# Altium footprint library expansion_library.PcbLib: 3 footprints
Each footprint in its own frame and in the unit in brackets; x right, y up, seen from the top. Pads: shape width x height; smd on the part's side, far side on the other; paste and mask are expansions set on the pad; w line width, h text height; cw(c..) or ccw(c..) is an arc to the next point about the centre after c.
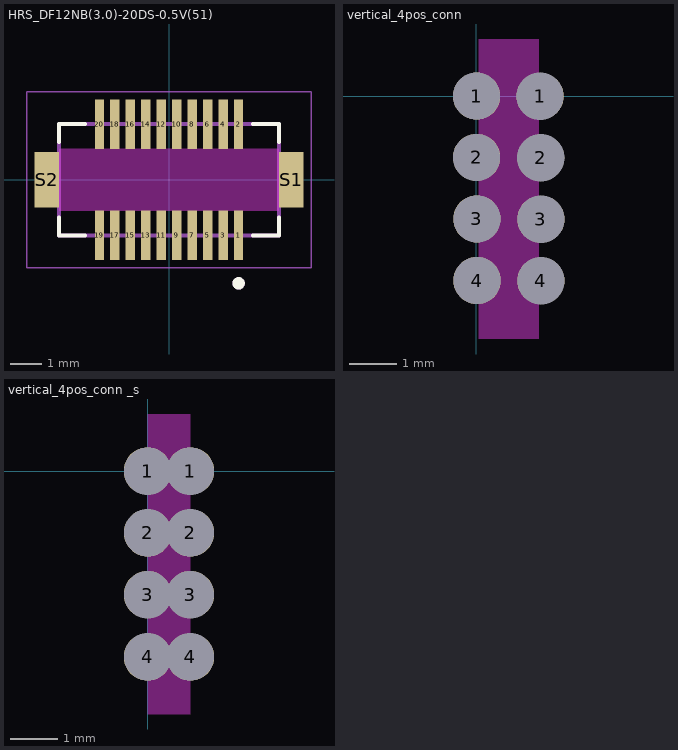
[diagram p0: the footprints below, top view; thin cyan lines are the x and y axes]

## HRS_DF12NB(3.0)-20DS-0.5V(51) [mm]
pads (22):
  rect 0.3x1.6 smd paste-2 mask+0.05: 1(2.25,-1.8) 2(2.25,1.8) 3(1.75,-1.8) 4(1.75,1.8) 5(1.25,-1.8) 6(1.25,1.8) 7(0.75,-1.8) 8(0.75,1.8) 9(0.25,-1.8) 10(0.25,1.8) 11(-0.25,-1.8) 12(-0.25,1.8) 13(-0.75,-1.8) 14(-0.75,1.8) 15(-1.25,-1.8) 16(-1.25,1.8) 17(-1.75,-1.8) 18(-1.75,1.8) 19(-2.25,-1.8) 20(-2.25,1.8)
  rect 0.8x1.8 smd: S1(3.95,0) S2(-3.95,0)
Top Overlay:
  circle w0.2: c2.25,-3.35 r0.1
  lines w0.127: -3.55,-1.22 -3.55,-1.8 -2.72,-1.8 ; -3.55,1.22 -3.55,1.8 -2.72,1.8 ; 2.72,-1.8 3.55,-1.8 3.55,-1.22 ; 2.72,1.8 3.55,1.8 3.55,1.22
Top Paste:
  region: -2.11,-2.6 -2.39,-2.6 -2.39,-1.4 -2.11,-1.4
  region: -2.11,1.4 -2.39,1.4 -2.39,2.6 -2.11,2.6
  region: -1.61,-2.6 -1.89,-2.6 -1.89,-1.4 -1.61,-1.4
  region: -1.61,1.4 -1.89,1.4 -1.89,2.6 -1.61,2.6
  region: -1.11,-2.6 -1.39,-2.6 -1.39,-1.4 -1.11,-1.4
  region: -1.11,1.4 -1.39,1.4 -1.39,2.6 -1.11,2.6
  region: -0.61,-2.6 -0.89,-2.6 -0.89,-1.4 -0.61,-1.4
  region: -0.61,1.4 -0.89,1.4 -0.89,2.6 -0.61,2.6
  region: -0.11,-2.6 -0.39,-2.6 -0.39,-1.4 -0.11,-1.4
  region: -0.11,1.4 -0.39,1.4 -0.39,2.6 -0.11,2.6
  region: 0.39,-2.6 0.11,-2.6 0.11,-1.4 0.39,-1.4
  region: 0.39,1.4 0.11,1.4 0.11,2.6 0.39,2.6
  region: 0.89,-2.6 0.61,-2.6 0.61,-1.4 0.89,-1.4
  region: 0.89,1.4 0.61,1.4 0.61,2.6 0.89,2.6
  region: 1.39,-2.6 1.11,-2.6 1.11,-1.4 1.39,-1.4
  region: 1.39,1.4 1.11,1.4 1.11,2.6 1.39,2.6
  region: 1.89,-2.6 1.61,-2.6 1.61,-1.4 1.89,-1.4
  region: 1.89,1.4 1.61,1.4 1.61,2.6 1.89,2.6
  region: 2.39,-2.6 2.11,-2.6 2.11,-1.4 2.39,-1.4
  region: 2.39,1.4 2.11,1.4 2.11,2.6 2.39,2.6
Keep-Out Layer:
  region: 3.55,-1 -3.55,-1 -3.55,1 3.55,1
Mechanical 13:
  circle w0.2: c2.25,-3.35 r0.1
  lines w0.127: -3.55,-1.8 3.55,-1.8 3.55,1.8 -3.55,1.8 -3.55,-1.8
Mechanical 15:
  lines w0.05: -4.6,-2.85 4.6,-2.85 4.6,2.85 -4.6,2.85 -4.6,-2.85
3D body "DF12NB-3.0--20DS-0.5V-51---3DModel-STEP-1.STEP": height 2.2, standoff 0, extent -4.056,-2.278 4.044,2.322

## vertical_4pos_conn [mm]
pads (8):
  round 1 hole 1: 1(0.01,0) 1(1.356,-0.005) 2(0.01,-1.3) 2(1.371,-1.308) 3(0.018,-2.604) 3(1.375,-2.61) 4(0.02,-3.91) 4(1.373,-3.913)
Keep-Out Layer:
  board cut-out: 0.055,1.21 1.325,1.21 1.325,-5.15 0.055,-5.15
Multi-Layer:
  region: 2.464,0.495 2.563,0.495 2.747,0.419 2.888,0.279 2.964,0.095 2.964,-0.104 2.888,-0.288 2.747,-0.428 2.563,-0.505 2.464,-0.505 1.364,-0.505 1.364,0.495
  region: 2.456,-3.413 1.356,-3.413 1.356,-4.413 2.456,-4.413 2.555,-4.413 2.739,-4.337 2.88,-4.197 2.956,-4.013 2.956,-3.814 2.88,-3.63 2.739,-3.49 2.555,-3.413
  region: 2.479,-0.808 2.578,-0.808 2.762,-0.884 2.902,-1.025 2.979,-1.208 2.979,-1.407 2.902,-1.591 2.762,-1.732 2.578,-1.808 2.479,-1.808 1.379,-1.808 1.379,-0.808
  region: -1.085,-3.104 -1.184,-3.104 -1.368,-3.028 -1.509,-2.887 -1.585,-2.703 -1.585,-2.505 -1.509,-2.321 -1.368,-2.18 -1.184,-2.104 -1.085,-2.104 0.01,-2.104 0.01,-3.104
  region: -1.065,-4.41 0.037,-4.41 0.037,-3.41 -1.065,-3.41 -1.164,-3.41 -1.348,-3.486 -1.489,-3.627 -1.565,-3.811 -1.565,-4.009 -1.489,-4.193 -1.348,-4.334 -1.164,-4.41
  region: -1.13,-0.5 -1.229,-0.5 -1.413,-0.424 -1.554,-0.283 -1.63,-0.099 -1.63,0.099 -1.554,0.283 -1.413,0.424 -1.229,0.5 -1.13,0.5 0.002,0.5 0.002,-0.5
  region: -1.088,-1.8 -1.187,-1.8 -1.371,-1.724 -1.512,-1.583 -1.588,-1.399 -1.588,-1.201 -1.512,-1.017 -1.371,-0.876 -1.187,-0.8 -1.088,-0.8 0.002,-0.8 0.002,-1.8
  region: 2.483,-2.11 2.583,-2.11 2.766,-2.186 2.907,-2.327 2.983,-2.511 2.983,-2.71 2.907,-2.893 2.766,-3.034 2.583,-3.11 2.483,-3.11 1.383,-3.11 1.383,-2.11
  lines w0.1: -1.14,-0.5 0.002,-0.5 0.002,0.5 -1.13,0.5 ccw(c-1.13,0) -1.13,-0.5 ; -1.098,-1.8 0.002,-1.8 0.002,-0.8 ; -1.095,-3.1 0.005,-3.1 ; -1.088,-1.8 cw(c-1.088,-1.3) -1.088,-0.8 0.012,-0.8 ; -1.085,-3.1 cw(c-1.085,-2.6) -1.085,-2.1 0.015,-2.1 ; 0.01,-3.104 0.01,-2.104 ; 0.035,-4.41 -1.065,-4.41 cw(c-1.065,-3.91) -1.065,-3.41 0.035,-3.41 ; 0.037,-4.41 0.037,-3.41 ; 1.356,-4.413 2.456,-4.413 ccw(c2.456,-3.913) 2.456,-3.413 1.356,-3.413 1.356,-4.413 ; 1.364,-0.505 1.364,0.495 2.464,0.495 cw(c2.464,-0.005) 2.464,-0.505 1.364,-0.505 ; 1.379,-1.808 2.479,-1.808 ccw(c2.479,-1.308) 2.479,-0.808 1.379,-0.808 1.379,-1.808 ; 1.383,-3.11 1.383,-2.11 2.483,-2.11 cw(c2.483,-2.61) 2.483,-3.11 1.383,-3.11

## vertical_4pos_conn _s [mm]
pads (8):
  round 1 hole 1: 1(0,0) 1(0.9,0) 2(0.002,-1.3) 2(0.9,-1.3) 3(0,-2.6) 3(0.9,-2.6) 4(0,-3.91) 4(0.9,-3.91)
Keep-Out Layer:
  board cut-out: 0,1.2 0.9,1.2 0.9,-5.11 0,-5.11
Multi-Layer:
  region: 1.5,-3.4 1.599,-3.4 1.783,-3.476 1.924,-3.617 2,-3.801 2,-3.999 1.924,-4.183 1.783,-4.324 1.599,-4.4 1.5,-4.4 0.898,-4.4 0.898,-3.4
  region: 1.5,-0.8 1.599,-0.8 1.783,-0.876 1.924,-1.017 2,-1.201 2,-1.399 1.924,-1.583 1.783,-1.724 1.599,-1.8 1.5,-1.8 0.898,-1.8 0.898,-0.8
  region: 1.5,0.5 1.599,0.5 1.783,0.424 1.924,0.283 2,0.099 2,-0.099 1.924,-0.283 1.783,-0.424 1.599,-0.5 1.5,-0.5 0.848,-0.5 0.848,0.5
  region: -0.6,-3.104 -0.699,-3.104 -0.883,-3.028 -1.024,-2.887 -1.1,-2.703 -1.1,-2.505 -1.024,-2.321 -0.883,-2.18 -0.699,-2.104 -0.6,-2.104 0.01,-2.104 0.01,-3.104
  region: -0.6,-0.5 -0.699,-0.5 -0.883,-0.424 -1.024,-0.283 -1.1,-0.099 -1.1,0.099 -1.024,0.283 -0.883,0.424 -0.699,0.5 -0.6,0.5 0.052,0.5 0.052,-0.5
  region: 1.5,-2.096 1.599,-2.096 1.783,-2.172 1.924,-2.313 2,-2.497 2,-2.695 1.924,-2.879 1.783,-3.02 1.599,-3.096 1.5,-3.096 0.89,-3.096 0.89,-2.096
  region: -0.6,-1.8 -0.699,-1.8 -0.883,-1.724 -1.024,-1.583 -1.1,-1.399 -1.1,-1.201 -1.024,-1.017 -0.883,-0.876 -0.699,-0.8 -0.6,-0.8 0.002,-0.8 0.002,-1.8
  region: -0.6,-4.41 0.037,-4.41 0.037,-3.41 -0.6,-3.41 -0.699,-3.41 -0.883,-3.486 -1.024,-3.627 -1.1,-3.811 -1.1,-4.009 -1.024,-4.193 -0.883,-4.334 -0.699,-4.41
  lines w0.1: -0.65,-3.1 0.005,-3.1 0.01,-3.095 0.01,-2.104 0.006,-2.1 -0.65,-2.1 ; -0.6,-3.1 cw(c-0.6,-2.6) -0.6,-2.1 ; 0,-0.8 -0.6,-0.8 ccw(c-0.6,-1.3) -0.6,-1.8 0.002,-1.8 0.002,-0.8 ; 0.035,-4.41 -0.6,-4.41 cw(c-0.6,-3.91) -0.6,-3.41 0.035,-3.41 ; 0.037,-4.41 0.037,-3.41 ; 0.052,-0.5 -0.6,-0.5 cw(c-0.6,0) -0.6,0.5 0.052,0.5 0.052,-0.49 ; 0.848,0.49 0.848,-0.5 1.5,-0.5 ccw(c1.5,0) 1.5,0.5 0.848,0.5 ; 0.89,-3.096 0.894,-3.1 ; 0.89,-2.105 0.895,-2.1 ; 0.898,-4.4 0.898,-3.4 1.5,-3.4 cw(c1.5,-3.9) 1.5,-4.4 0.9,-4.4 ; 0.898,-1.8 0.898,-0.8 1.5,-0.8 cw(c1.5,-1.3) 1.5,-1.8 0.9,-1.8 ; 0.9,-3.1 1.55,-3.1 ; 0.9,-3.096 0.9,-2.105 ; 0.9,-2.1 1.55,-2.1 ; 1.5,-3.1 ccw(c1.5,-2.6) 1.5,-2.1